# Altium schematic symbol library IC.SchLib: 2 symbols
Pins are listed as number, name and electrical type; pins without a type are passive.

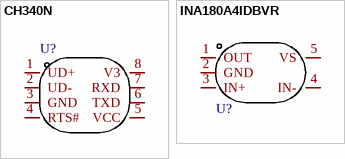
[diagram p0: symbols CH340N to INA180A4IDBVR]

## CH340N
designator U?  (value not drawn)
Manufacturer: WCH(南京沁恒); Symbol: CH340N_C2977777; Add into BOM: yes; Name: CH340N; Device: CH340N; LCSC Part Name: CH340N; Supplier Part: C2977777; Manufacturer Part: CH340N; Supplier Footprint: SOP-8; JLCPCB Part Class: ExtendedPart; Datasheet: https://atta.szlcsc.com/upload/public/pdf/source/20220223/82A45E4FF89B3EDCAD50B354450A7EF4.pdf; Supplier: LCSC; Convert to PCB: yes; NO_CONNECT: yes
footprint SOP-8_L4.9-W3.9-P1.27-LS6.0-BL
pins: 1 UD+, 2 UD-, 3 GND, 4 RTS#, 5 VCC, 6 TXD, 7 RXD, 8 V3

## INA180A4IDBVR
designator U?  (value not drawn)
增益Max(V/V):200;共模输入电压:-0.2V~26V;共模输入电压:-0.2V~26V;监控类型:HighandLowSide;工作电压:2.7V~5.5V;工作电压:2.7V~5.5V;; Manufacturer: TI(德州仪器); Add into BOM: yes; Gain Max(V/V): 200; Amplifier Type: CurrentSense; Gain Error(%): ±0.1; Gain Bandwidth Product: 105kHz; Number of Channels: 1; Name: INA180A4IDBVR; Symbol: INA180A4IDBVR; Device: INA180A4IDBVR; LCSC Part Name: INA180A4IDBVR; Supplier Part: C188337; Manufacturer Part: INA180A4IDBVR; Supplier Footprint: SOT-23-5; JLCPCB Part Class: ExtendedPart; Datasheet: https://atta.szlcsc.com/upload/public/pdf/source/20180403/C188337_C6510A5FB0FB3DC111ED8D3ACD5C8675.pdf; Supplier: LCSC; Convert to PCB: yes; Features: 低侧和高侧,双向; Common-mode Input Voltage: -0.2V~26V; Monitor Type: HighandLowSide; Voltage - Supply: 2.7V~5.5V
footprint SOT-23-5_L3.0-W1.7-P0.95-LS2.8-BR
pins: 1 OUT, 2 GND, 3 IN+, 4 IN-, 5 VS